# Altium schematic symbol library librerias_delvalle.SchLib: 2 symbols
Pins are listed as number, name and electrical type; pins without a type are passive.

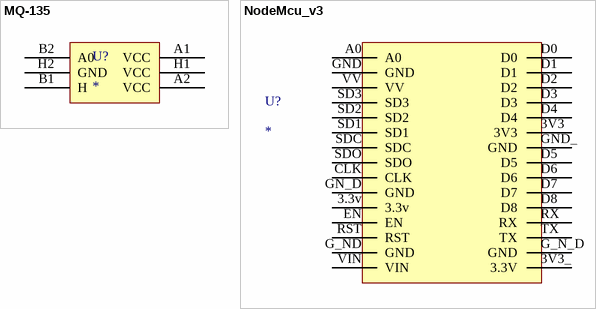
[diagram p0: symbols MQ-135 to NodeMcu_v3]

## MQ-135
designator U?
footprint PCBComponent_1
pins: A1 VCC (power), A2 VCC (power), B1 H "R 10k to ground", B2 A0, H1 VCC (power), H2 GND

## NodeMcu_v3
designator U?
footprint NodeMcu_v3
pins: 3.3v, 3V3, 3V3_ 3.3V, A0, CLK, D0, D1, D2, D3, D4, D5, D6, D7, D8, EN, G_N_D GND, G_ND GND, GN_D GND, GND, GND_ GND, RST, RX, SD1, SD2, SD3, SDC, SDO, TX, VIN, VV